# EAGLE library part 750813550 (library Wurth Electronics Midcom Inc V1-0)
Package Style: Speedy EE25/13/7(EF25) 18W THT Mounting: THT Pins: 10 pins Bobbin: 070-2607 Windings Primary: 120 - 191V, 55 - 85kHz Aux: 12.5VDC, 80mADC Secondary: 50VDC, 340mADC Secondary: 12.5VDC, 80mADC Best pinouts for production vary per application. Please contact Wurth Electronics Midcom, Inc. for assistance with your custom design. Datasheet: 750813550 <http://www.we-online.com/web/en/index.php/show/media/passive_components_-_custom_magnetics/pdf_doc_files/spec_sheets/7508/750813550.pdf> Website: Wurth Electronics Midcom <http://www.we-online.com/midcom> Contact us Wurth Electronics Midcom, Inc. 121 Airport Dr. Watertown, SD 57201 Phone: (605) 886-4385 Fax: (605) 886-4486 E-Mail: midcom@we-online.com
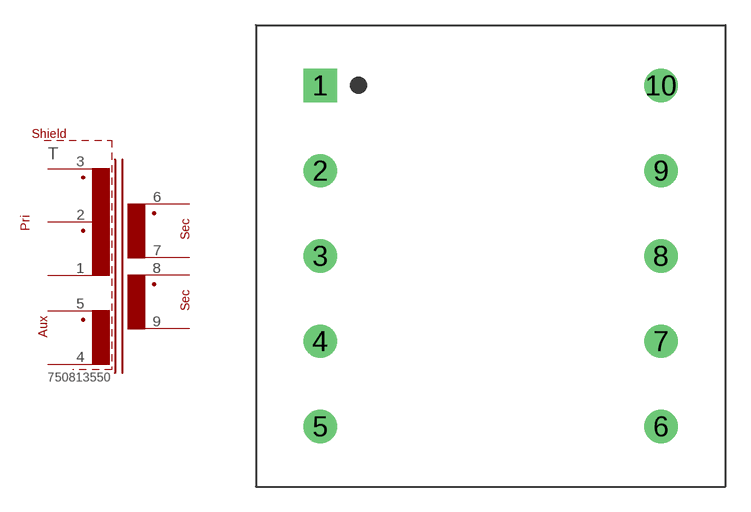
[diagram p84: symbol with the pads of 00SPEEDY_EE25/13/7_THT_H_10PIN; footprint 00SPEEDY_EE25/13/7_THT_H_10PIN]

Designator prefix T

## 750813550  [00SPEEDY_EE25/13/7_THT_H_10PIN]
1  3  pas
2  2  pas
3  1  pas
4  5  pas
5  4  pas
6  6  pas
7  7  pas
8  8  pas
9  9  pas

## Footprint 00SPEEDY_EE25/13/7_THT_H_10PIN (pad centres in mm)
Package Style: Speedy EE25/13/7 Mounting: THT Pins: 10 pins Bobbin: 070-2607
drill 1.321 square: 1 -10.16,10.16
drill 1.321 round: 2 -10.16,5.08; 3 -10.16,0; 4 -10.16,-5.08; 5 -10.16,-10.16; 6 10.16,-10.16; 7 10.16,-5.08; 8 10.16,0; 9 10.16,5.08; 10 10.16,10.16